# Altium schematic symbol library SCH - MCU - STM32 - ST MICROELECTRONICS STM32H503EBYX WLCSP25.SchLib: 1 symbol
Pins are listed as number, name and electrical type; pins without a type are passive.

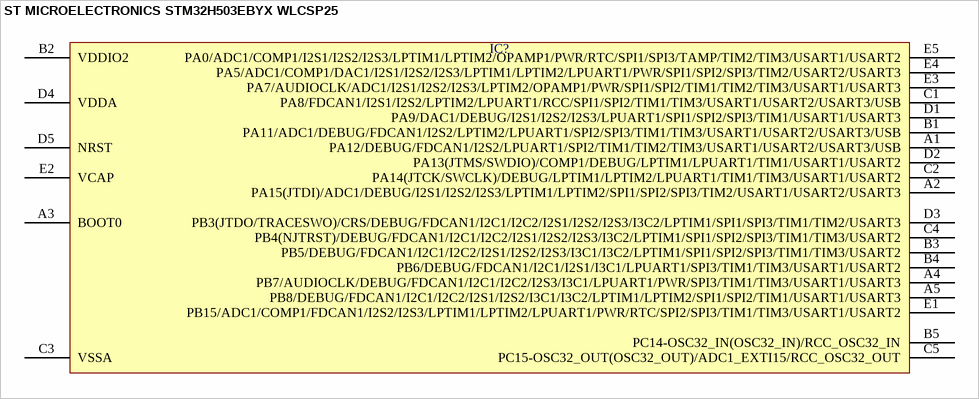
[diagram p0: symbol ST MICROELECTRONICS STM32H503EBYX WLCSP25]

## ST MICROELECTRONICS STM32H503EBYX WLCSP25
designator IC?  (value not drawn)
pins: A1 PA12/DEBUG/FDCAN1/I2S2/LPUART1/SPI2/TIM1/TIM2/TIM3/USART1/USART2/USART3/USB, A2 PA15(JTDI)/ADC1/DEBUG/I2S1/I2S2/I2S3/LPTIM1/LPTIM2/SPI1/SPI2/SPI3/TIM2/USART1/USART2/USART3, A3 BOOT0, A4 PB7/AUDIOCLK/DEBUG/FDCAN1/I2C1/I2C2/I2S3/I3C1/LPUART1/PWR/SPI3/TIM1/TIM3/USART1/USART3, A5 PB8/DEBUG/FDCAN1/I2C1/I2C2/I2S1/I2S2/I3C1/I3C2/LPTIM1/LPTIM2/SPI1/SPI2/TIM1/USART1/USART3, B1 PA11/ADC1/DEBUG/FDCAN1/I2S2/LPTIM2/LPUART1/SPI2/SPI3/TIM1/TIM3/USART1/USART2/USART3/USB, B2 VDDIO2, B3 PB5/DEBUG/FDCAN1/I2C1/I2C2/I2S1/I2S2/I2S3/I3C1/I3C2/LPTIM1/SPI1/SPI2/SPI3/TIM1/TIM3/USART2, B4 PB6/DEBUG/FDCAN1/I2C1/I2S1/I3C1/LPUART1/SPI3/TIM1/TIM3/USART1/USART2, B5 PC14-OSC32_IN(OSC32_IN)/RCC_OSC32_IN, C1 PA8/FDCAN1/I2S1/I2S2/LPTIM2/LPUART1/RCC/SPI1/SPI2/TIM1/TIM3/USART1/USART2/USART3/USB, C2 PA14(JTCK/SWCLK)/DEBUG/LPTIM1/LPTIM2/LPUART1/TIM1/TIM3/USART1/USART2, C3 VSSA, C4 PB4(NJTRST)/DEBUG/FDCAN1/I2C1/I2C2/I2S1/I2S2/I2S3/I3C2/LPTIM1/SPI1/SPI2/SPI3/TIM1/TIM3/USART2, C5 PC15-OSC32_OUT(OSC32_OUT)/ADC1_EXTI15/RCC_OSC32_OUT, D1 PA9/DAC1/DEBUG/I2S1/I2S2/I2S3/LPUART1/SPI1/SPI2/SPI3/TIM1/USART1/USART3, D2 PA13(JTMS/SWDIO)/COMP1/DEBUG/LPTIM1/LPUART1/TIM1/USART1/USART2, D3 PB3(JTDO/TRACESWO)/CRS/DEBUG/FDCAN1/I2C1/I2C2/I2S1/I2S2/I2S3/I3C2/LPTIM1/SPI1/SPI3/TIM1/TIM2/USART3, D4 VDDA, D5 NRST, E1 PB15/ADC1/COMP1/FDCAN1/I2S2/I2S3/LPTIM1/LPTIM2/LPUART1/PWR/RTC/SPI2/SPI3/TIM1/TIM3/USART1/USART2, E2 VCAP, E3 PA7/AUDIOCLK/ADC1/I2S1/I2S2/I2S3/LPTIM2/OPAMP1/PWR/SPI1/SPI2/TIM1/TIM2/TIM3/USART1/USART3, E4 PA5/ADC1/COMP1/DAC1/I2S1/I2S2/I2S3/LPTIM1/LPTIM2/LPUART1/PWR/SPI1/SPI2/SPI3/TIM2/USART2/USART3, E5 PA0/ADC1/COMP1/I2S1/I2S2/I2S3/LPTIM1/LPTIM2/OPAMP1/PWR/RTC/SPI1/SPI3/TAMP/TIM2/TIM3/USART1/USART2